# EAGLE library part MAX2614 (library max2614)
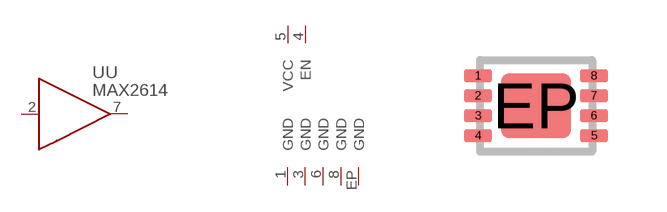
[diagram p0: symbol with the pads of TDFN8-2X3MM; footprint TDFN8-2X3MM]

Designator prefix -; gates U=RFAMP P=PWR

## MAX2614  [TDFN8-2X3MM]
1  P:GND  pwr
2  U:IN  in
3  P:GND  pwr
4  P:EN  in
5  P:VCC  pwr
6  P:GND  pwr
7  U:OUT  out
8  P:GND  pwr
EP  P:GND  pwr

## Footprint TDFN8-2X3MM (pad centres in mm)
TDFN 8 pol. 3x3 mm Source: Data sheet <http://datasheets.maxim-ic.com/en/ds/MAX8559.pdf>
smd 0.7 x 0.3: 1 -1.45,0.75; 2 -1.45,0.25; 3 -1.45,-0.25; 4 -1.45,-0.75; 5 1.45,-0.75; 6 1.45,-0.25; 7 1.45,0.25; 8 1.45,0.75
smd 1.74 x 1.63: EP 0,0